# Altium footprint library Main_Board.PcbLib: 50 footprints (part 4 of 4)
Each footprint in its own frame and in the unit in brackets; x right, y up, seen from the top. Pads: shape width x height; smd on the part's side, far side on the other; paste and mask are expansions set on the pad; w line width, h text height; cw(c..) or ccw(c..) is an arc to the next point about the centre after c.
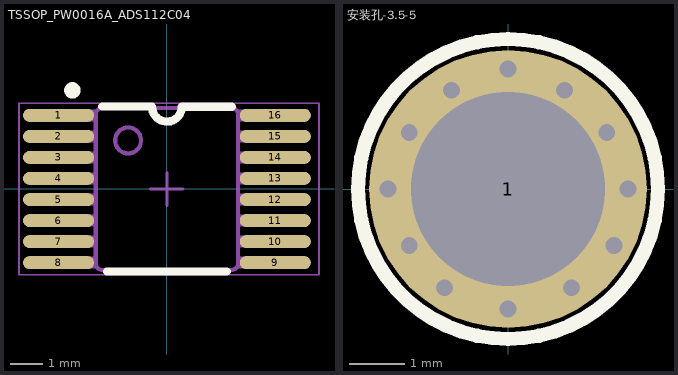
[diagram p3: the footprints below, top view; thin cyan lines are the x and y axes]

## TSSOP_PW0016A_ADS112C04 [mm]
pads (16):
  oval 2.2x0.4 smd paste+0 mask+0: 1(-3.35,2.275) 2(-3.35,1.625) 3(-3.35,0.975) 4(-3.35,0.325) 5(-3.35,-0.325) 6(-3.35,-0.975) 7(-3.35,-1.625) 8(-3.35,-2.275) 9(3.35,-2.275) 10(3.35,-1.625) 11(3.35,-0.975) 12(3.35,-0.325) 13(3.35,0.325) 14(3.35,0.975) 15(3.35,1.625) 16(3.35,2.275)
Top Overlay:
  circle w0.254: c-2.921,3.048 r0.127
  lines w0.254: -2,2.55 -0.458,2.55 ; -1.85,-2.55 1.85,-2.55 ; -0.458,2.549 ccw(c0,2.54) 0.458,2.54 ; 0.458,2.539 2,2.539
Mechanical 13:
  drawing of 202 lines, arcs and shapes, not listed
Mechanical 15:
  lines w0.05: -4.572,-2.65 -4.572,2.65 4.699,2.65 4.699,-2.65 -4.572,-2.65
  lines w0.1: -0.5,0 0.5,0 ; 0,-0.5 0,0.5
3D body: height 0.25, standoff 0, extent 0,0 0.254,0.254

## 安装孔-3.5-5 [mm]
pads (1):
  round 5 hole 3.5: 1(0,0)
via 0,2.159 diameter 0.635 hole 0.305
via -2.159,0 diameter 0.635 hole 0.305
via 0,-2.159 diameter 0.635 hole 0.305
via 2.159,0 diameter 0.635 hole 0.305
via -1.778,1.016 diameter 0.635 hole 0.305
via -1.016,1.778 diameter 0.635 hole 0.305
via 1.016,1.778 diameter 0.635 hole 0.305
via 1.778,1.016 diameter 0.635 hole 0.305
via 1.905,-1.016 diameter 0.635 hole 0.305
via 1.143,-1.778 diameter 0.635 hole 0.305
via -1.143,-1.778 diameter 0.635 hole 0.305
via -1.778,-1.016 diameter 0.635 hole 0.305
Top Overlay:
  circle w0.254: c0,0 r2.7